# EAGLE library part 255-608/000-005 (library con-wago_255)
Serie 255, Stand: 01.01.2012. Die jeweils aktuellen Daten zu diesem Artikel finden Sie in unserem Produktkatalog, den Sie unter www.wago.com einsehen können. As of: 01/01/2012. Please find the newest data for this article in our product catalogue, which can be viewed under www.wago.com.
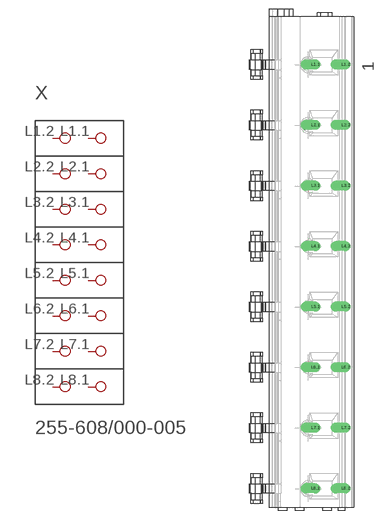
[diagram p132: symbol with the pads of P-255-608; footprint P-255-608]

Designator prefix X

## 255-608/000-005  [P-255-608]
L1.1  P1.1
L1.2  P1.2
L2.1  P2.1
L2.2  P2.2
L3.1  P3.1
L3.2  P3.2
L4.1  P4.1
L4.2  P4.2
L5.1  P5.1
L5.2  P5.2
L6.1  P6.1
L6.2  P6.2
L7.1  P7.1
L7.2  P7.2
L8.1  P8.1
L8.2  P8.2

## Footprint P-255-608 (pad centres in mm)
drill 1.1 offset: L1.1 2.359,32.25; L1.2 7.359,32.25; L2.1 2.359,22.25; L2.2 7.359,22.25; L3.1 2.359,12.25; L3.2 7.359,12.25; L4.1 2.359,2.25; L4.2 7.359,2.25; L5.1 2.359,-7.75; L5.2 7.359,-7.75; L6.1 2.359,-17.75; L6.2 7.359,-17.75; L7.1 2.359,-27.75; L7.2 7.359,-27.75; L8.1 2.359,-37.75; L8.2 7.359,-37.75